# Altium footprint library SMD_4pins.PcbLib: 4 footprints
Each footprint in its own frame and in the unit in brackets; x right, y up, seen from the top. Pads: shape width x height; smd on the part's side, far side on the other; paste and mask are expansions set on the pad; w line width, h text height; cw(c..) or ccw(c..) is an arc to the next point about the centre after c.
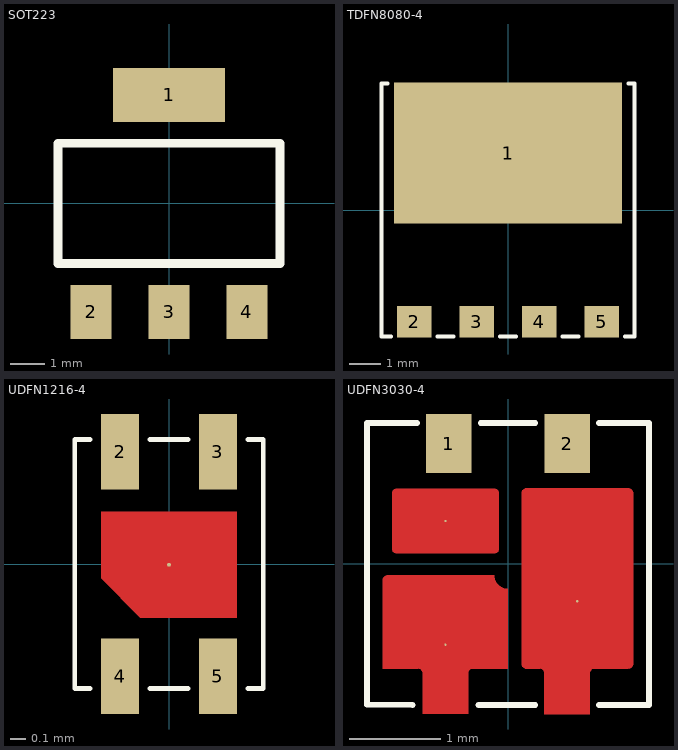
[diagram p0: the footprints below, top view; thin cyan lines are the x and y axes]

## SOT223 [mm]
pads (4):
  rect 3.3x1.6 smd mask+0.102: 1(0,3.2)
  rect 1.2x1.6 smd mask+0.102: 2(-2.3,-3.2) 3(0,-3.2) 4(2.3,-3.2)
Top Overlay:
  lines w0.256: -3.275,-1.775 -3.275,1.775 3.275,1.775 3.275,-1.775 -3.275,-1.775
3D body "SOT223.stp": height 1.61, standoff 0.01, extent -3.167,-3.497 3.333,3.503

## TDFN8080-4 [mm]
pads (5):
  rect 7.3x4.5 smd mask+0.102: 1(0,1.825)
  rect 1.1x1 smd mask+0.102: 2(-3,-3.575) 3(-1,-3.575) 4(1,-3.575) 5(3,-3.575)
Top Overlay:
  lines w0.128: -3.85,4.05 -4.05,4.05 -4.05,-4.05 -3.75,-4.05 ; -2.25,-4.05 -1.75,-4.05 ; -0.25,-4.05 0.25,-4.05 ; 1.75,-4.05 2.25,-4.05 ; 3.75,-4.05 4.05,-4.05 4.05,4.05 3.85,4.05
3D body "T-DFN8080-4-stp.stp": height 1.06, standoff 0.01, extent -4,-4 4,4

## UDFN1216-4 [mm]
pads (5):
  round 0.025 smd mask+0.052: 1(0,-0.005)
  rect 0.25x0.5 smd mask+0.052: 2(-0.325,0.745) 3(0.325,0.745) 4(-0.325,-0.745) 5(0.325,-0.745)
Top Layer:
  region: -0.19,-0.355 -0.45,-0.095 -0.45,0.345 0.45,0.345 0.45,-0.355
Top Overlay:
  lines w0.032: -0.525,-0.825 -0.625,-0.825 -0.625,0.825 -0.525,0.825 ; -0.125,-0.825 0.125,-0.825 ; -0.125,0.825 0.125,0.825 ; 0.525,-0.825 0.625,-0.825 0.625,0.825 0.525,0.825
3D body "DFN1216-4.stp": height 0.51, standoff 0.01, extent -0.6,-0.8 0.6,0.8

## UDFN3030-4 [mil]
pads (5):
  rect 19.68x25.59 smd mask+2.05: 1(-25.58,52.13) 2(25.6,52.13)
  round 1 smd mask+2.05: 3(-27.04,18.6) 4(30.01,-16.13) 5(-27.1,-34.93)
Top Layer:
  region: -36.93,-64.95 -36.93,-47.24 -36.97,-46.86 -37.26,-46.15 -37.8,-45.6 -38.51,-45.31 -38.9,-45.27 -54.15,-45.27 -54.15,-6.88 -54.17,-6.88 -54.17,-6.49 -53.87,-5.77 -53.32,-5.21 -52.59,-4.91 -52.2,-4.91 -5.94,-4.91 -5.93,-4.9 -5.9,-5.48 -5.67,-6.62 -5.23,-7.69 -4.59,-8.66 -3.77,-9.48 -2.81,-10.12 -1.74,-10.56 -0.6,-10.79 -0.02,-10.82 -0.02,-45.27 -15.28,-45.27 -15.66,-45.31 -16.37,-45.6 -16.91,-46.15 -17.21,-46.86 -17.25,-47.24 -17.25,-64.95
  region: -48.19,4.53 -48.58,4.53 -49.31,4.83 -49.86,5.39 -50.16,6.11 -50.16,6.5 -50.16,30.68 -50.16,31.07 -49.86,31.79 -49.31,32.35 -48.58,32.64 -48.19,32.64 -48.19,32.67 -5.91,32.6 -5.52,32.6 -4.79,32.3 -4.24,31.75 -3.94,31.02 -3.94,30.63 -3.92,6.51 -3.94,6.51 -3.94,6.11 -4.24,5.39 -4.79,4.83 -5.52,4.53 -5.91,4.53
  region: 15.74,-64.95 15.74,-47.24 15.7,-46.86 15.41,-46.15 14.87,-45.6 14.16,-45.31 13.77,-45.27 7.87,-45.27 7.47,-45.27 6.75,-44.97 6.2,-44.41 5.9,-43.69 5.9,-43.3 5.9,30.72 5.9,31.11 6.2,31.83 6.75,32.39 7.48,32.68 7.87,32.68 52.16,32.68 52.55,32.68 53.27,32.38 53.83,31.83 54.13,31.1 54.13,30.71 54.13,-43.3 54.13,-43.69 53.82,-44.42 53.27,-44.97 52.55,-45.27 52.15,-45.27 37.39,-45.27 37.01,-45.31 36.3,-45.6 35.76,-46.15 35.46,-46.86 35.42,-47.24 35.42,-64.95
Top Overlay:
  lines w2.52: -41.34,-61.02 -61.02,-60.98 -61.02,61.02 -39.37,61.02 ; -12.8,-61.02 11.81,-61.02 ; -11.81,61.02 11.81,61.02 ; 39.37,-61.02 61.02,-61.02 ; 39.37,61.02 61.02,61.02 ; 61.01,-61.02 61.02,61.02 ; 61.01,-61.02 61.02,61.02
3D body "DFN3030-4_STP.stp": height 24.12, standoff 0.5, extent -59.06,-59.06 59.06,59.06